# EAGLE library part XR-9050D (library exar)
Data SYNCHRONIZER/RLL ENDEC
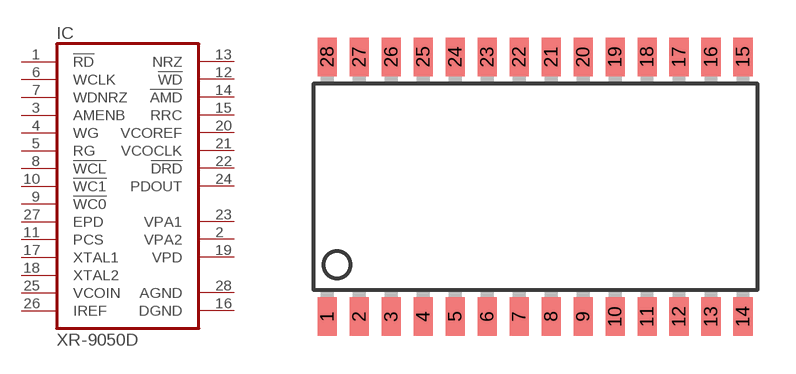
[diagram p103: symbol with the pads of SO-28LD; footprint SO-28LD]

Designator prefix IC

## XR-9050D (OC_FARNELL: unknown; OC_NEWARK: unknown)  [SO-28LD]
1  !RD  in
2  VPA2  pwr
3  AMENB  in
4  WG  in
5  RG  in
6  WCLK  in
7  WDNRZ  in
8  !WCL  in
9  !WC0  in
10  !WC1  in
11  PCS  in
12  !WD  out
13  NRZ
14  !AMD  out
15  RRC  out
16  DGND  pwr
17  XTAL1  in
18  XTAL2  in
19  VPD  pwr
20  VCOREF  out
21  VCOCLK  out
22  !DRD  out
23  VPA1  pwr
24  PDOUT  out
25  VCOIN  in
26  IREF  in
27  EPD  in
28  AGND  pwr

## Footprint SO-28LD (pad centres in mm)
Small Outline Package
smd 0.762 x 1.524: 1 -8.255,-5.156; 2 -6.985,-5.156; 3 -5.715,-5.156; 4 -4.445,-5.156; 5 -3.175,-5.156; 6 -1.905,-5.156; 7 -0.635,-5.156; 8 0.635,-5.156; 9 1.905,-5.156; 10 3.175,-5.156; 11 4.445,-5.156; 12 5.715,-5.156; 13 6.985,-5.156; 14 8.255,-5.156; 15 8.255,5.156; 16 6.985,5.156; 17 5.715,5.156; 18 4.445,5.156; 19 3.175,5.156; 20 1.905,5.156; 21 0.635,5.156; 22 -0.635,5.156; 23 -1.905,5.156; 24 -3.175,5.156; 25 -4.445,5.156; 26 -5.715,5.156; 27 -6.985,5.156; 28 -8.255,5.156